# Altium footprint library SparkFun-Connectors.PCBLIB: 376 footprints (part 17 of 24)
Each footprint in its own frame and in the unit in brackets; x right, y up, seen from the top. Pads: shape width x height; smd on the part's side, far side on the other; paste and mask are expansions set on the pad; w line width, h text height; cw(c..) or ccw(c..) is an arc to the next point about the centre after c.
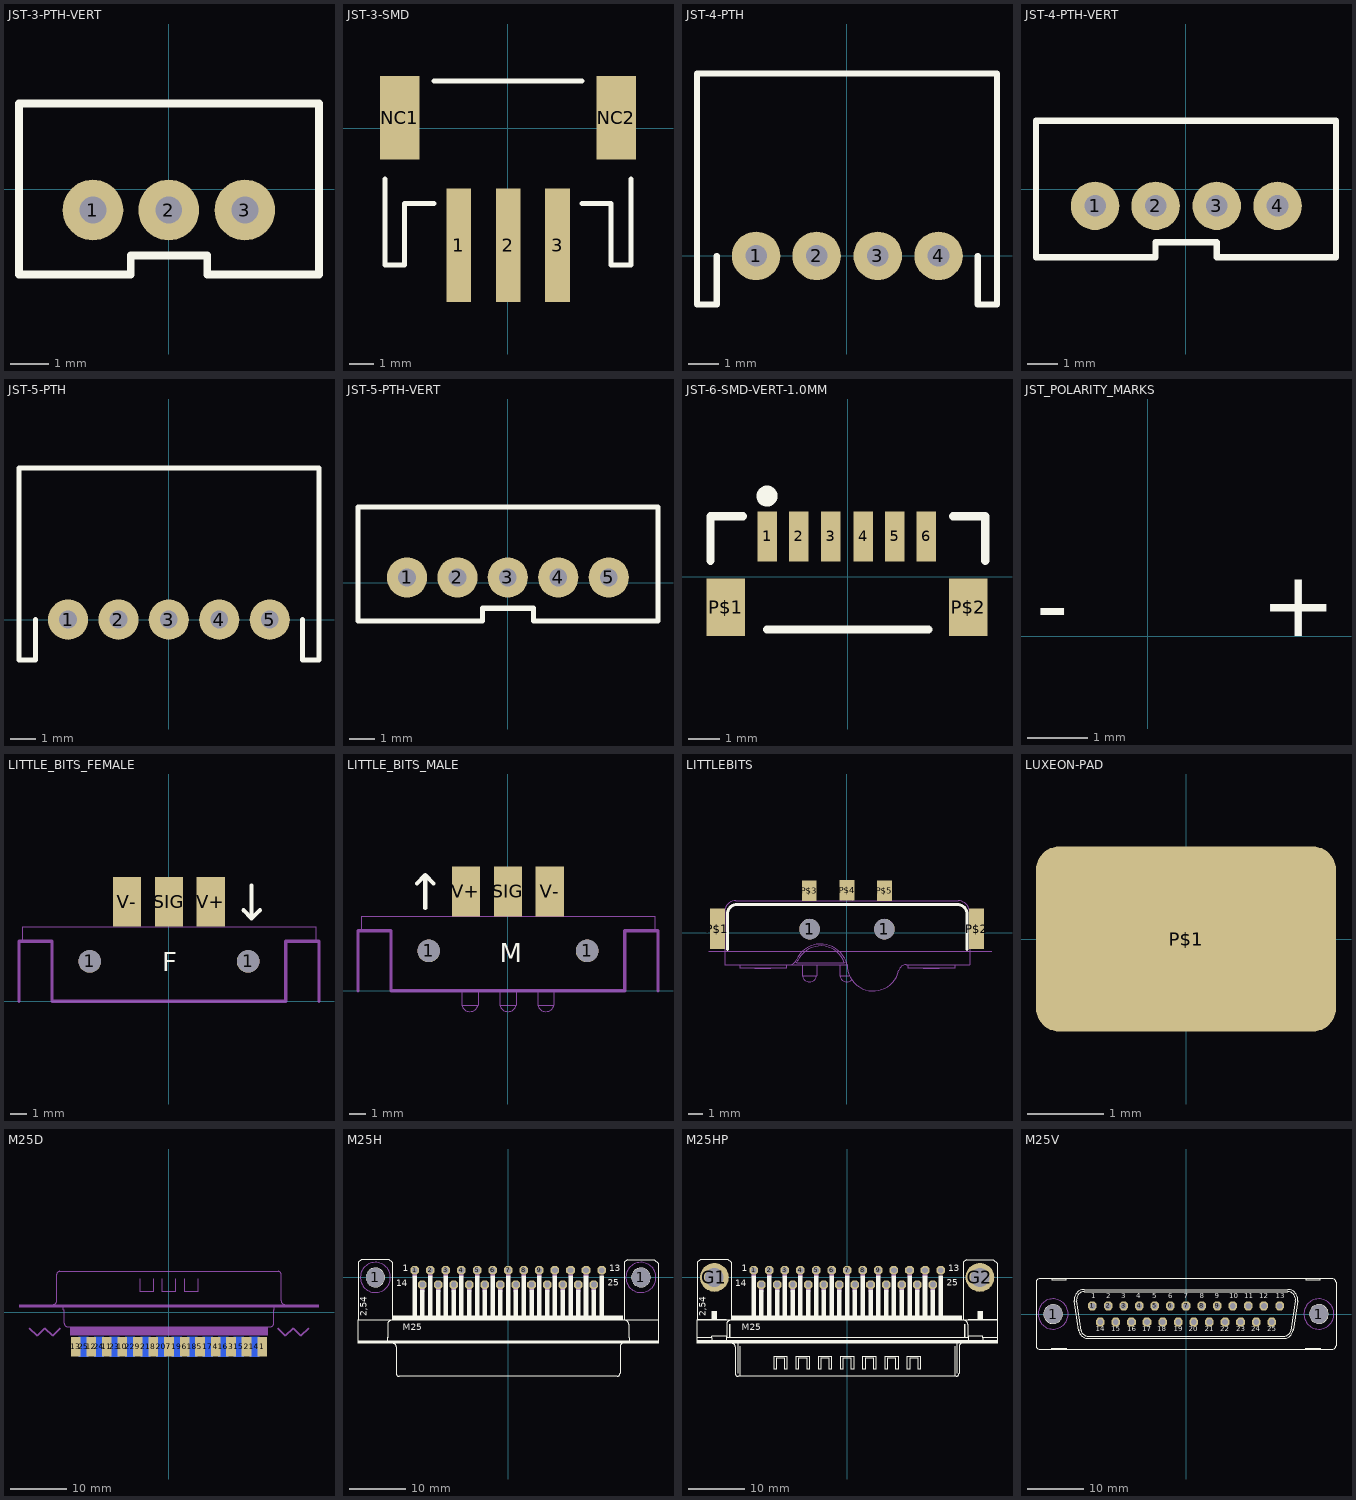
[diagram p16: the footprints below, top view; thin cyan lines are the x and y axes]

## JST-3-PTH-VERT [mil]
pads (3):
  round 63 hole 28: 1(-78.74,-21.65) 2(0,-21.65) 3(79,-21.65)
Top Overlay:
  lines w8: -155.51,-88.58 -155.51,89 156,89 156,-88.58 40,-88.58 40,-68.9 -39.37,-68.9 -39.37,-88.58 -155.51,-88.58
Mechanical 2:
  text ">Name" at -118.11,119 h24.8
Mechanical 4:
  text ">Value" at 40,119 h24.8
Mechanical 16:
  text "+" at -94.49,30 h77.5
  text "-" at -15.75,30 h77.5
  text "S" at 67,38 h49.6

## JST-3-SMD [mil]
pads (5):
  rect 40x182 smd: 1(-78.35,-187.8) 2(1,-187.8) 3(80,-187.8)
  rect 63x134 smd: NC1(-172.83,17) NC2(174,17)
Top Overlay:
  lines w8: -196.46,-81.5 -196.46,-219.29 -164.96,-219.29 -164.96,-120.87 -117.72,-120.87 ; -117.72,76 119,76 ; 119,-120.87 166,-120.87 166,-219.29 198,-219.29 198,-81.5
Mechanical 2:
  text ">Name" at -88.98,8 h24.8
Mechanical 4:
  text ">Value" at -88.98,-42.13 h24.8

## JST-4-PTH [mil]
pads (4):
  round 63 hole 28: 1(-118.11,0) 2(-39.37,0) 3(40,0) 4(119,0)
Top Overlay:
  lines w8: -169.29,0 -169.29,-62.99 -194.88,-62.99 -194.88,237 195,237 195,-62.99 170,-62.99 170,0
Mechanical 2:
  text ">Name" at -89.37,208 h24.8
Mechanical 4:
  text ">Value" at -89.37,158 h24.8
Mechanical 16:
  text "+" at -133.86,28 h77.5
  text "-" at -55.12,28 h77.5
  text "S" at 28,36 h49.6
  text "S" at 107,36 h49.6

## JST-4-PTH-VERT [mil]
pads (4):
  round 63 hole 28: 1(-118.11,-21.65) 2(-39.37,-21.65) 3(40,-21.65) 4(119,-21.65)
Top Overlay:
  lines w8: -194.88,-88.58 -194.88,89 195,89 195,-88.58 40,-88.58 40,-68.9 -39.37,-68.9 -39.37,-88.58 -194.88,-88.58
Mechanical 2:
  text ">Name" at -118.11,119 h24.8
Mechanical 4:
  text ">Value" at 40,119 h24.8
Mechanical 16:
  text "+" at -55.12,30 h77.5
  text "-" at 24,30 h77.5
  text "Y" at 107,38 h49.6
  text "B" at -129.92,38 h49.6

## JST-5-PTH [mil]
pads (5):
  round 63 hole 28: 1(-157.48,0) 2(-78.74,0) 3(0,0) 4(79,0) 5(158,0)
Top Overlay:
  lines w8: -208.66,0 -208.66,-62.99 -234.25,-62.99 -234.25,237 235,237 235,-62.99 209,-62.99 209,0
Mechanical 2:
  text ">Name" at -128.74,208 h24.8
Mechanical 4:
  text ">Value" at -128.74,158 h24.8

## JST-5-PTH-VERT [mil]
pads (5):
  round 63 hole 28: 1(-157.48,8) 2(-78.74,8) 3(0,8) 4(79,8) 5(158,8)
Top Overlay:
  lines w8: -234.25,-59.84 -234.25,118 235,118 235,-59.84 40,-59.84 40,-40.16 -39.37,-40.16 -39.37,-59.84 -234.25,-59.84
Mechanical 2:
  text ">Name" at -157.48,147 h24.8
Mechanical 4:
  text ">Value" at 0,147 h24.8

## JST-6-SMD-VERT-1.0MM [mil]
pads (8):
  rect 24x62 smd: 1(-100,50) 2(-60.63,50) 3(-21.26,50) 4(19,50) 5(58,50) 6(97,50)
  rect 48x71 smd: P$1(-151.18,-37.6) P$2(149,-37.6)
Top Overlay:
  circle w16: c-100,100 r5
  lines w10: -170,20 -170,75 -130,75 ; -100,-65 100,-65 ; 130,75 170,75 170,20
Mechanical 2:
  text ">Name" at -50,100 h24.8
Mechanical 4:
  text ">VALUE" at -50,-100 h24.8

## JST_POLARITY_MARKS [mil]
Top Overlay:
  text "+" at 73,0 h42.5
  text "-" at -72.5,0 h42.5
Mechanical 16:
  text "+" at 73,0 h42.5
  text "-" at -72.5,0 h42.5

## LITTLE_BITS_FEMALE [mil]
pads (5):
  round 54 hole 54: 1(-188.58,95) 1(189,95)
  rect 67x119 smd: SIG(0,237) V+(100,237) V-(-100,237)
Top Overlay:
  lines w10: 178,217 197,197 ; 197,276 197,197 ; 217,217 197,197
  text "F" at -15.75,56 h77.5
Mechanical 1:
  lines w8: -357.28,0 -357.28,143 -278.54,143 -278.54,0 279,0 279,143 358,143 358,0
Mechanical 16:
  lines w1: -349.41,143 -349.41,178 350,178 350,143

## LITTLE_BITS_MALE [mil]
pads (5):
  round 54 hole 54: 1(-188.58,95) 1(189,95)
  rect 67x119 smd: SIG(0,237) V+(-100,237) V-(100,237)
Top Overlay:
  lines w10: -216.54,256 -196.85,276 ; -196.85,197 -196.85,276 ; -177.17,256 -196.85,276
  text "M" at -19,52 h77.5
Mechanical 1:
  lines w8: -357.28,0 -357.28,143 -278.54,143 -278.54,0 279,0 279,143 358,143 358,0
Mechanical 16:
  lines w0: -110.11,-4.09 -110.11,-34.09 ; -71.11,-4.09 -71.11,-34.09 ; -19.11,-4.09 -19.11,-34.09 ; 20,-4.09 20,-34.09 ; 71,-4.09 71,-34.09 ; 110,-4.09 110,-34.09 ; -110.11,-34.09 -71.11,-34.09 ; -110.11,-34.09 ccw(c-90.61,-29.64) -71.11,-34.09 ; -19.11,-34.09 20,-34.09 ; -19.11,-34.09 ccw(c0.44,-29.63) 20,-34.09 ; 71,-34.09 110,-34.09 ; 71,-34.09 ccw(c90.5,-29.64) 110,-34.09
  lines w1: -349.41,143 -349.41,178 350,178 350,143

## LITTLEBITS [mil]
pads (7):
  round 55 hole 55: 1(-99,9) 1(101,9)
  rect 40x109 smd: P$1(-346,10) P$2(348,10)
  rect 40x55 smd: P$3(-100,112) P$4(1,113) P$5(101,112)
Top Overlay:
  lines w8: -319,-45.5 -319,50 cw(c-294,50) -294,75 297,75 cw(c297,50) 322,50 322,-45.5
Mechanical 16:
  circle w1: c-99.19,10 r25
  circle w1: c-99.19,10 r15
  circle w1: c101,10 r25
  circle w1: c101,10 r15
  lines w0: -369,-49.5 389,-49.5 ; -326.69,60 -326.69,-40.97 ; -286.69,-85.97 -286.69,-95.97 -161.69,-95.97 -161.69,-85.97 ; -245.85,-95.97 -245.85,-96.97 -204.19,-96.97 -204.19,-95.97 ; -236.48,-96.97 -236.48,-95.97 ; -210.43,-96.97 -210.43,-95.97 ; -137.44,-77.97 -133.44,-80.97 ; -118.69,-85.97 -118.69,-115.97 ; -114.19,85 -114.19,135 -84.19,135 -84.19,85 ; -79.69,-85.97 -79.69,-115.97 ; -14.19,85 -14.19,135 16,135 16,85 ; -1.41,-79.42 -5.87,-80.97 ; 8,-115.97 -18.68,-115.97 ; 14,-126.62 cw(c0.85,-111.5) -18.68,-115.97 ; 86,85 86,135 116,135 116,85 ; 329,-40.97 364,-40.97 364,-3.47 cw(c364,9.27) 364,22 364,60 329,60 ; -326.69,-40.97 -326.69,-85.97 -153.44,-85.97 ; -326.69,-40.97 -361.69,-40.97 -361.69,-3.47 ccw(c-361.69,9.27) -361.69,22 -361.69,60 -326.26,60 cw(c-296.68,55) -296.69,85 116,85 ; -153.44,-85.97 -18.68,-85.97 ; -153.44,-85.97 ccw(c-153.44,-65.97) -135.13,-74.02 ; -135.13,-74.02 -130.56,-76.03 ; -135.13,-74.02 -135.14,-74.02 ; -135.14,-74.02 cw(c-69.09,-103.05) 1,-85.97 ; -133.44,-80.97 -5.87,-80.97 ; -133.44,-80.97 ccw(c-153.44,-65.97) -130.56,-76.03 ; -130.56,-76.03 cw(c-69.18,-103.02) -5.87,-80.97 ; -118.69,-115.97 -79.69,-115.97 ; -118.69,-115.97 ccw(c-99.19,-111.52) -79.68,-115.97 ; -18.68,-115.97 -18.68,-85.97 ; -18.68,-85.97 1,-85.97 ; 1,-85.97 1,-85.97 ; 1,-85.97 ccw(c71.38,-85.93) 140,-101.52 cw(c159.25,-105.66) 159,-85.97 164,-85.97 ; 116,85 299,85 cw(c298.71,55.34) 328,60 329,60 ; 164,-85.97 289,-85.97 ; 164,-85.97 164,-95.97 205,-95.97 ; 205,-95.97 214,-95.97 ; 205,-95.97 205,-96.97 214,-96.97 ; 214,-96.97 240,-96.97 ; 214,-96.97 214,-95.97 ; 214,-95.97 240,-95.97 ; 240,-96.97 246,-96.97 246,-95.97 ; 240,-96.97 240,-95.97 ; 240,-95.97 246,-95.97 ; 246,-95.97 289,-95.97 289,-85.97 ; 289,-85.97 329,-85.97 329,60

## LUXEON-PAD [mil]
pads (1):
  rrect25% 154x95 smd: P$1(0,0)
Mechanical 2:
  text ">NAME" at -59.06,79 h77.5
Mechanical 4:
  text ">VALUE" at -59.06,-118.11 h77.5

## M25D [mil]
pads (25):
  rect 67x138 smd: 1(649,-237.98) 2(540,-237.99) 3(432,-237.98) 4(325,-237.98) 5(216,-237.98) 6(109,-237.98) 7(0,-237.99) 8(-108.01,-237.98) 9(-215.99,-237.98) 10(-324.01,-237.98) 11(-431.99,-237.98) 12(-540,-237.99) 13(-648.01,-237.98)
  rect 67x138 smd far side: 14(594,-238) 15(486,-238) 16(378,-238) 17(270,-238) 18(162,-238) 19(54,-238) 20(-54,-238) 21(-162,-238) 22(-270,-238) 23(-378,-238) 24(-486,-238) 25(-594,-238)
Mechanical 2:
  text ">NAME" at -200,-350 h24.8
Mechanical 4:
  text ">VALUE" at 0,-350 h24.8
Mechanical 16:
  rectangle: -1043.31,36 1044,56
  rectangle: -688.98,-161.42 689,-98.43
  lines w6: -805,56 ccw(c-805,81) -780,81 -780,266 cw(c-760,266) -760,286 760,286 cw(c760,266) 780,266 780,81 ccw(c805,81) 805,56 ; -734,40 -734,20 -729,20 -729,-75 ccw(c-704,-75) -704,-100 ; -704.76,-100 704,-100 ; -200,235 -200,145 -110,145 -110,235 ; -45,235 -45,145 45,145 45,235 ; 110,235 110,145 200,145 200,235 ; 705,-100 704,-100 ; 734,40 734,20 729,20 729,-75 cw(c704,-75) 704,-100
  text "1" at 631,-85.77 h77.5
  text "13" at -663.8,-85.77 h77.5
  text "M25D" at -678,181 h77.5
Mechanical 30:
  lines w10: -972,-108 -918,-162 -864,-108 -810,-162 -756,-108 ; 756,-108 810,-162 864,-108 918,-162 972,-108
  text "Board" at 774,-100 h77.5
  text "25" at -577.19,-32.48 h77.5
  text "14" at 616,-32.48 h77.5
  text "Board" at -974,-100 h77.5

## M25H [mil]
pads (27):
  round 130 hole 130: 1(-926,0) 1(926,0)
  oct 60x60 hole 40: 1(-652,50) 2(-543,50) 3(-435,50) 4(-326,50) 5(-217,50) 6(-109,50) 7(0,50) 8(109,50) 9(217,50) 10(326,50) 11(435,50) 12(543,50) 13(652,50) 14(-598,-50) 15(-489,-50) 16(-380,-50) 17(-272,-50) 18(-163,-50) 19(-54,-50) 20(54,-50) 21(163,-50) 22(272,-50) 23(380,-50) 24(489,-50) 25(598,-50)
Top Overlay:
  circle w6: c926,0 r65
  circle w6: c-926,0 r65
  rectangle: -1045,-460 1045,-440
  rectangle: -800,-300 800,-270
  rectangle: -668,-270 -636,15
  rectangle: -614,-270 -582,-85
  rectangle: -559,-270 -527,15
  rectangle: -505,-270 -473,-85
  rectangle: -451,-270 -419,15
  rectangle: -396,-270 -364,-85
  rectangle: -342,-270 -310,15
  rectangle: -288,-270 -256,-85
  rectangle: -233,-270 -201,15
  rectangle: -179,-270 -147,-85
  rectangle: -125,-270 -93,15
  rectangle: -70,-270 -38,-85
  rectangle: -16,-270 16,15
  rectangle: 38,-270 70,-85
  rectangle: 93,-270 125,15
  rectangle: 147,-270 179,-85
  rectangle: 201,-270 233,15
  rectangle: 256,-270 288,-85
  rectangle: 310,-270 342,15
  rectangle: 364,-270 396,-85
  rectangle: 419,-270 451,15
  rectangle: 473,-270 505,-85
  rectangle: 527,-270 559,15
  rectangle: 582,-270 614,-85
  rectangle: 636,-270 668,15
  lines w6: -845,-440 -845,-420 -840,-420 -840,-325 cw(c-815,-325) -815,-300 ; -805,-460 cw(c-805,-485) -780,-485 -780,-670 ccw(c-760,-670) -760,-690 -750,-690 750,-690 760,-690 ccw(c760,-670) 780,-670 780,-485 cw(c805,-485) 805,-460 ; 815,-300 cw(c815,-325) 840,-325 840,-420 845,-420 845,-440 ; -1045,-300 -1045,-420 -1045,-440 -1045,-460 -765,-460 765,-460 1045,-460 1045,-440 1045,-420 1045,-300 ; -1045,-300 -1045,-295 -1045,105 -1025,125 -830,125 -810,105 -810,-300 ; -1045,-300 -845,-300 -810,-300 ; -810,-300 -800,-300 ; -800,-300 800,-300 ; -800,-300 -800,-270 800,-270 800,-300 ; 800,-300 810,-300 ; 810,-300 845,-300 1045,-300 ; 810,-300 810,105 830,125 1020,125 1045,100 1045,-295 1045,-300
  text "1" at -735,25 h77.5
  text "13" at 705,25 h77.5
  text "14" at -780,-80 h77.5
  text "25" at 695,-75 h77.5
  text "2,54" at -970,-270 h77.5
  text "M25" at -735,-385 h77.5
Mechanical 2:
  text ">NAME" at -1040,175 h108.5
Mechanical 4:
  text ">VALUE" at -700,-805 h108.5
Mechanical 9:
  circle w0: c926,0 r105
  circle w0: c-926,0 r105
Mechanical 10:
  circle w0: c926,0 r105
  circle w0: c-926,0 r105
Mechanical 16:
  lines w6: 652,5 652,45
  lines w32: -652,5 -652,45 ; -598,-94 -598,-54 ; -543,5 -543,45 ; -489,-94 -489,-54 ; -435,5 -435,45 ; -380,-94 -380,-54 ; -326,5 -326,45 ; -272,-95 -272,-55 ; -217,5 -217,45 ; -163,-95 -163,-55 ; -109,5 -109,45 ; -54,-95 -54,-55 ; 0,5 0,45 ; 54,-95 54,-55 ; 109,5 109,45 ; 163,-95 163,-55 ; 217,5 217,45 ; 272,-95 272,-55 ; 326,5 326,45 ; 380,-95 380,-55 ; 435,5 435,45 ; 489,-95 489,-55 ; 543,5 543,45 ; 598,-95 598,-55

## M25HP [mil]
pads (27):
  oct 60x60 hole 40: 1(-652,50) 2(-543,50) 3(-435,50) 4(-326,50) 5(-217,50) 6(-109,50) 7(0,50) 8(109,50) 9(217,50) 10(326,50) 11(435,50) 12(543,50) 13(652,50) 14(-598,-50) 15(-489,-50) 16(-380,-50) 17(-272,-50) 18(-163,-50) 19(-54,-50) 20(54,-50) 21(163,-50) 22(272,-50) 23(380,-50) 24(489,-50) 25(598,-50)
  round 200 hole 130: G1(-926,0) G2(926,0)
Top Overlay:
  drawing of 161 lines, arcs and shapes, not listed
  text "1" at -735,25 h77.5
  text "13" at 705,25 h77.5
  text "14" at -780,-80 h77.5
  text "25" at 695,-75 h77.5
  text "2,54" at -970,-270 h77.5
  text "M25" at -735,-385 h77.5
Mechanical 2:
  text ">NAME" at -1040,175 h108.5
Mechanical 4:
  text ">VALUE" at -700,-805 h108.5
Mechanical 16:
  lines w6: 652,5 652,45
  lines w32: -652,5 -652,45 ; -598,-94 -598,-54 ; -543,5 -543,45 ; -489,-94 -489,-54 ; -435,5 -435,45 ; -380,-94 -380,-54 ; -326,5 -326,45 ; -272,-95 -272,-55 ; -217,5 -217,45 ; -163,-95 -163,-55 ; -109,5 -109,45 ; -54,-95 -54,-55 ; 0,5 0,45 ; 54,-95 54,-55 ; 109,5 109,45 ; 163,-95 163,-55 ; 217,5 217,45 ; 272,-95 272,-55 ; 326,5 326,45 ; 380,-95 380,-55 ; 435,5 435,45 ; 489,-95 489,-55 ; 543,5 543,45 ; 598,-95 598,-55

## M25V [mil]
pads (27):
  round 130 hole 130: 1(-926,0) 1(926,0)
  oct 60x60 hole 40: 1(-652,56) 2(-543,56) 3(-435,56) 4(-326,56) 5(-217,56) 6(-109,56) 7(0,56) 8(109,56) 9(217,56) 10(326,56) 11(435,56) 12(543,56) 13(652,56) 14(-598,-56) 15(-489,-56) 16(-380,-56) 17(-272,-56) 18(-163,-56) 19(-54,-56) 20(54,-56) 21(163,-56) 22(272,-56) 23(380,-56) 24(489,-56) 25(598,-56)
Top Overlay:
  circle w6: c-926,-1 r65
  circle w6: c926,0 r65
  lines w6: -777,92 -746,-116 ; -776.68,89 cw(c-710.14,102.17) -710,170 710,170 cw(c710.29,102.03) 777,89 ; -762,92 -731,-116 ; -761.97,92 cw(c-710.16,102.2) -710,155 710,155 cw(c710.22,102.06) 762,91 731,-115 ; -747.4,-110.99 ccw(c-680,-102) -680,-170 680,-170 ccw(c680.04,-101.94) 748,-105.7 ; -731.3,-115.33 ccw(c-680,-102) -680,-155 680,-155 ccw(c680.23,-101.7) 732,-114.37 ; 747,-113 777,91 ; -935,-245 -935,-240 -835,-240 -835,-245 ; -935,-245 -835,-245 ; -935,-245 -1020,-245 cw(c-1020,-220) -1045,-220 -1045,220 cw(c-1020,220) -1020,245 -935,245 ; -935,245 -935,240 -835,240 -835,245 ; -935,245 -835,245 ; -835,-245 835,-245 ; -835,245 835,245 ; 835,-245 835,-240 935,-240 935,-245 ; 835,-245 935,-245 ; 835,245 835,240 935,240 935,245 ; 835,245 935,245 ; 935,-245 1020,-245 ccw(c1020,-220) 1045,-220 1045,220 ccw(c1020,220) 1020,245 935,245
  text "1" at -660,95 h60.45
  text "2" at -555,95 h60.45
  text "3" at -450,95 h60.45
  text "4" at -345,95 h60.45
  text "5" at -235,95 h60.45
  text "6" at -125,95 h60.45
  text "7" at -15,95 h60.45
  text "8" at 95,95 h60.45
  text "9" at 200,95 h60.45
  text "10" at 300,95 h60.45
  text "11" at 405,95 h60.45
  text "12" at 510,95 h60.45
  text "13" at 625,95 h60.45
  text "14" at -630,-135 h60.45
  text "15" at -520,-135 h60.45
  text "16" at -410,-135 h60.45
  text "17" at -305,-135 h60.45
  text "18" at -200,-135 h60.45
  text "19" at -85,-135 h60.45
  text "20" at 20,-135 h60.45
  text "21" at 130,-135 h60.45
  text "22" at 240,-135 h60.45
  text "23" at 350,-135 h60.45
  text "24" at 455,-135 h60.45
  text "25" at 565,-135 h60.45
Mechanical 2:
  text ">NAME" at -1035,275 h108.5
Mechanical 4:
  text ">VALUE" at -100,275 h108.5
Mechanical 9:
  circle w0: c926,0 r105
  circle w0: c-926,0 r105
Mechanical 10:
  circle w0: c926,0 r105
  circle w0: c-926,0 r105
Mechanical 16:
  circle w16: c-109,56 r10
  circle w16: c-163,-56 r10
  circle w16: c-217,56 r10
  circle w16: c0,56 r10
  circle w16: c-54,-56 r10
  circle w16: c54,-56 r10
  circle w16: c109,56 r10
  circle w16: c217,56 r10
  circle w16: c163,-56 r10
  circle w16: c272,-56 r10
  circle w16: c326,56 r10
  circle w16: c380,-56 r10
  circle w16: c435,56 r10
  circle w16: c489,-56 r10
  circle w16: c543,56 r10
  circle w16: c652,56 r10
  circle w16: c598,-56 r10
  circle w16: c-326,56 r10
  circle w16: c-272,-56 r10
  circle w16: c-380,-56 r10
  circle w16: c-435,56 r10
  circle w16: c-543,56 r10
  circle w16: c-652,56 r10
  circle w16: c-489,-56 r10
  circle w16: c-598,-56 r10